# EAGLE library part WIFI-LORA32-V2 (library wifilora32v2)
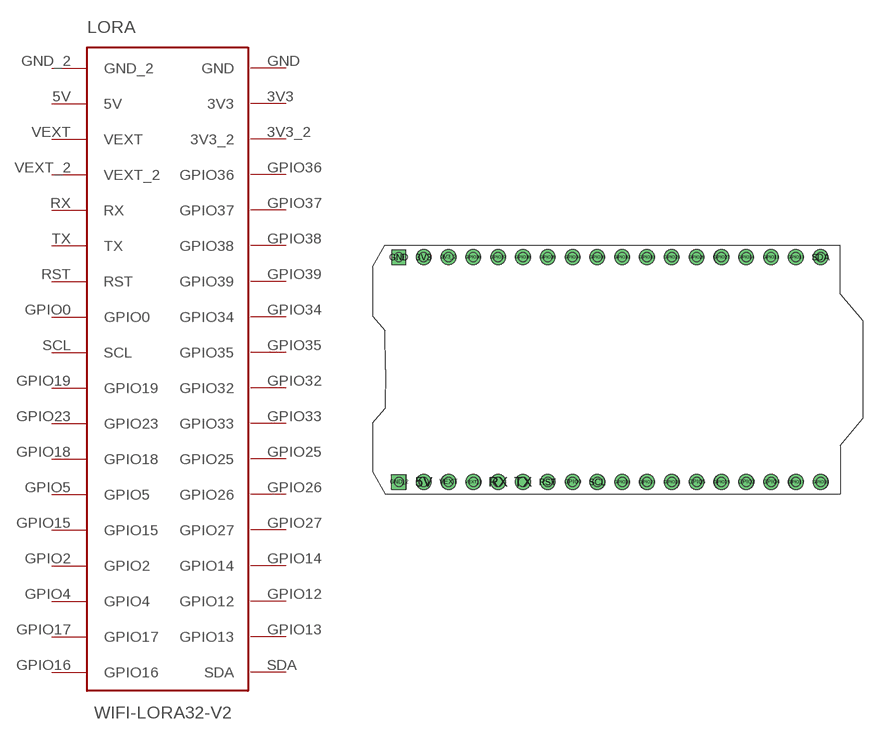
[diagram p0: symbol with the pads of WIFI-LORA32-V2; footprint WIFI-LORA32-V2]

Designator prefix LORA

## WIFI-LORA32-V2  [WIFI-LORA32-V2]
3V3  3V3
3V3_2  3V3_2
5V  5V
GND  GND
GND_2  GND_2
GPIO0  GPIO0
GPIO2  GPIO2
GPIO4  GPIO4
GPIO5  GPIO5
GPIO12  GPIO12
GPIO13  GPIO13
GPIO14  GPIO14
GPIO15  GPIO15
GPIO16  GPIO16
GPIO17  GPIO17
GPIO18  GPIO18
GPIO19  GPIO19
GPIO23  GPIO23
GPIO25  GPIO25
GPIO26  GPIO26
GPIO27  GPIO27
GPIO32  GPIO32
GPIO33  GPIO33
GPIO34  GPIO34
GPIO35  GPIO35
GPIO36  GPIO36
GPIO37  GPIO37
GPIO38  GPIO38
GPIO39  GPIO39
RST  RST
RX  RX
SCL  SCL
SDA  SDA
TX  TX
VEXT  VEXT
VEXT_2  VEXT_2

## Footprint WIFI-LORA32-V2 (pad centres in mm)
drill 1 pad 1.5: 3V3 -17.808,10.766; 3V3_2 -15.276,10.772; 5V -17.794,-12.254; GPIO0 -2.559,-12.253; GPIO2 15.223,-12.256; GPIO4 17.762,-12.257; GPIO5 10.141,-12.258; GPIO12 17.748,10.763; GPIO13 20.29,10.764; GPIO14 15.209,10.764; GPIO15 12.684,-12.254; GPIO16 22.841,-12.257; GPIO17 20.304,-12.256; GPIO18 7.598,-12.256; GPIO19 2.519,-12.256; GPIO23 5.061,-12.255; GPIO25 7.584,10.764; GPIO26 10.127,10.762; GPIO27 12.67,10.766; GPIO32 2.505,10.764; GPIO33 5.047,10.765; GPIO34 -2.573,10.767; GPIO35 -0.034,10.765; GPIO36 -12.737,10.769; GPIO37 -10.194,10.764; GPIO38 -7.656,10.765; GPIO39 -5.116,10.763; RST -5.102,-12.257; RX -10.18,-12.256; SCL -0.02,-12.255; SDA 22.827,10.763; TX -7.642,-12.255; VEXT -15.262,-12.248; VEXT_2 -12.723,-12.251
drill 1 pad 1.5 square: GND -20.359,10.764; GND_2 -20.345,-12.256